# Altium footprint library ESMARC V5.0.PcbLib: 59 footprints (part 4 of 4)
Each footprint in its own frame and in the unit in brackets; x right, y up, seen from the top. Pads: shape width x height; smd on the part's side, far side on the other; paste and mask are expansions set on the pad; w line width, h text height; cw(c..) or ccw(c..) is an arc to the next point about the centre after c.
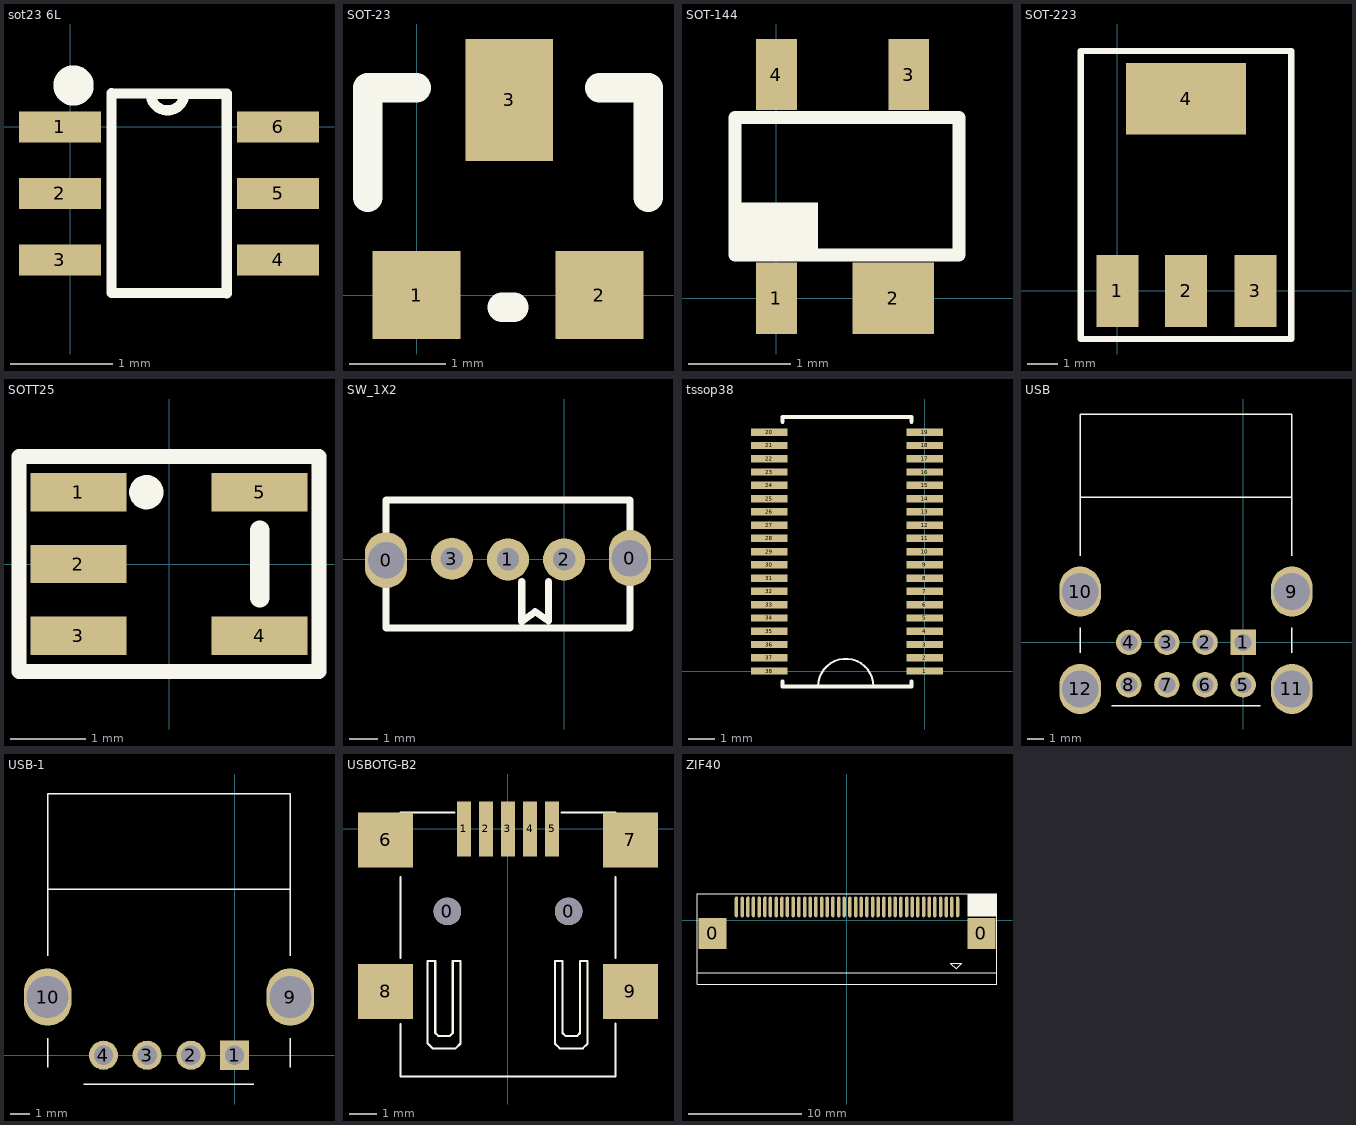
[diagram p3: the footprints below, top view; thin cyan lines are the x and y axes]

## sot23 6L [mm]
pads (6):
  rect 0.8x0.3 smd: 1(-0.102,0) 2(-0.102,-0.65) 3(-0.102,-1.3) 4(2.032,-1.3) 5(2.032,-0.65) 6(2.032,0)
Top Overlay:
  circle w0.254: c0.031,0.406 r0.07
  lines w0.1: 0.402,-1.62 1.529,-1.625 1.529,0.325 0.787,0.325 ccw(c0.95,0.325) 1.112,0.325 0.402,0.33 0.402,-1.62

## SOT-23 [mil]
pads (3):
  rect 36x36 smd: 1(0,0) 2(75,0)
  rect 36x50 smd: 3(38,80)
Top Overlay:
  lines w12: -20,40 -20,85 0,85 ; 35,-5 40,-5 ; 75,85 95,85 95,40

## SOT-144 [mm]
height 1
pads (4):
  rect 0.4x0.7 smd: 1(0,0) 3(1.3,2.2) 4(0,2.2)
  rect 0.8x0.7 smd: 2(1.15,0)
Top Overlay:
  rectangle: -0.406,0.428 0.406,0.94
  lines w0.127: -0.406,0.428 1.794,0.428 1.794,1.778 -0.406,1.778 -0.406,0.428

## SOT-223 [mil]
pads (4):
  rect 55x94 smd: 1(0,0) 2(90,0) 3(181,0)
  rect 157x94 smd: 4(90,252)
Top Overlay:
  lines w8: -48,-63 228,-63 228,315 -48,315 -48,-63

## SOTT25 [mm]
pads (5):
  rect 1.27x0.508 smd: 1(-1.2,0.95) 2(-1.2,0) 3(-1.2,-0.95) 4(1.2,-0.95) 5(1.2,0.95)
Top Overlay:
  circle w0.254: c-0.3,0.95 r0.1
  lines w0.2: -0.237,1.425 1.985,1.425 1.985,-1.425 -1.985,-1.425 -1.985,1.425 0.237,1.425
  lines w0.254: 1.2,-0.45 1.2,0.45

## SW_1X2 [mm]
pads (5):
  oval 1.5x2 hole 1.3: 0(-6.35,-0.025) 0(2.35,0.05)
  round 1.5 hole 0.8: 1(-2,0) 2(0,0) 3(-4,0.025)
Top Overlay:
  lines w0.254: -1.509,-0.787 -1.509,-2.212 -1.034,-1.862 -0.559,-2.187 -0.559,-0.787 ; 2.35,-2.45 -6.35,-2.45 -6.35,2.125 2.35,2.126 2.35,-2.446

## tssop38 [mil]
pads (38):
  rect 54x11 smd: 1(0,0) 2(0,19.69) 3(0,39.37) 4(0,59.06) 5(0,78.74) 6(0,98.43) 7(0,118.11) 8(0,137.8) 9(0,157.48) 10(0,177.17) 11(0,196.86) 12(0,216.54) 13(0,236.23) 14(0,255.91) 15(0,275.6) 16(0,295.28) 17(0,314.97) 18(0,334.65) 19(0,354.34) 20(-230.32,354.34) 21(-230.32,334.65) 22(-230.32,314.97) 23(-230.32,295.28) 24(-230.32,275.6) 25(-230.32,255.91) 26(-230.32,236.23) 27(-230.32,216.54) 28(-230.32,196.86) 29(-230.32,177.17) 30(-230.32,157.48) 31(-230.32,137.8) 32(-230.32,118.11) 33(-230.32,98.43) 34(-230.32,78.74) 35(-230.32,59.06) 36(-230.32,39.37) 37(-230.32,19.69) 38(-230.32,0)
Top Overlay:
  lines w3: -158,-22.74 cw(c-117,-22.74) -76,-22.74
  lines w6: -210.74,-15.5 -210.74,-22.74 -19.58,-22.74 -19.58,-15.5 ; -210.74,369.84 -210.74,377.08 -19.58,377.08 -19.58,369.84

## USB [mil]
pads (12):
  rect 60x60 hole 40: 1(0,0)
  round 60 hole 40: 2(-90,0) 3(-180,0) 4(-270,0) 5(0,-100) 6(-90,-100) 7(-180,-100) 8(-270,-100)
  oval 98.43x118.11 hole 86.61: 9(115,120) 10(-385,120) 11(115,-110) 12(-385,-110)
Top Overlay:
  lines w3: -385,-25 -385,35 ; -385,205 -385,539.17 115,539.17 115,205 ; -383.23,342.32 115,342.52 ; -310,-150 40,-150 ; 115,-25 115,35

## USB-1 [mil]
pads (6):
  rect 60x60 hole 40: 1(0,0)
  round 60 hole 40: 2(-90,0) 3(-180,0) 4(-270,0)
  oval 98.43x118.11 hole 86.61: 9(115,120) 10(-385,120)
Top Overlay:
  lines w3: -385,-25 -385,35 ; -385,205 -385,539.17 115,539.17 115,205 ; -383.23,342.32 115,342.52 ; -310.63,-60.04 39.37,-60.04 ; 115,-25 115,35

## USBOTG-B2 [mm]
height 3.9
pads (11):
  round 1 hole 1: 0(-2.2,-3) 0(2.2,-3)
  rect 0.5x2 smd: 1(-1.6,0) 2(-0.8,0) 3(0,0) 4(0.8,0) 5(1.6,0)
  rect 2x2 smd: 6(-4.45,-0.4) 7(4.45,-0.4) 8(-4.45,-5.9) 9(4.45,-5.9)
Top Overlay:
  lines w0.076: -3.9,-7.087 -3.9,-9 3.9,-9 3.9,-7.075 ; -3.9,-4.682 -3.9,-1.753 ; -3.9,0.6 -1.95,0.6 ; 1.95,0.6 3.9,0.6 ; 3.9,-4.682 3.9,-1.741 ; -2.921,-7.798 -2.743,-7.976 -1.905,-7.976 -1.727,-7.798 -1.727,-4.801 -1.956,-4.801 -2.007,-4.801 -2.007,-7.417 -2.108,-7.518 -2.54,-7.518 -2.616,-7.442 -2.642,-7.417 -2.642,-4.801 -2.921,-4.801 -2.921,-7.798 ; 1.702,-7.798 1.702,-4.801 1.981,-4.801 1.981,-7.417 2.007,-7.442 2.083,-7.518 2.515,-7.518 2.616,-7.417 2.616,-4.801 2.667,-4.801 2.896,-4.801 2.896,-7.798 2.718,-7.976 1.88,-7.976 1.702,-7.798

## ZIF40 [mil]
pads (42):
  rect 98x108 smd: 0(-467,-46) 0(467,-46)
  oval 12x72 smd: 1(384,46) 2(364,46) 3(345,46) 4(325,46) 5(305,46) 6(286,46) 7(266,46) 8(246,46) 9(227,46) 10(207,46) 11(187,46) 12(167,46) 13(148,46) 14(128,46) 15(108,46) 16(89,46) 17(69,46) 18(49,46) 19(30,46) 20(10,46) 21(-10,46) 22(-29,46) 23(-49,46) 24(-69,46) 25(-88,46) 26(-108,46) 27(-128,46) 28(-147,46) 29(-167,46) 30(-187,46) 31(-207,46) 32(-226,46) 33(-246,46) 34(-266,46) 35(-285,46) 36(-305,46) 37(-325,46) 38(-344,46) 39(-364,46) 40(-384,46)
Top Overlay:
  rectangle: 417.68,12.17 519.32,92.72
  lines w3: -519.29,-183.29 512.32,-183.28 519.32,-183.28 ; -519.29,-223.28 -519.29,92.72 519.32,92.72 519.32,-223.28 -519.29,-223.28 ; 359.32,-149.28 379.32,-169.28 399.32,-149.28 359.32,-149.28